# Altium footprint library RN41-I_RM.PcbLib: 1 footprints
Each footprint in its own frame and in the unit in brackets; x right, y up, seen from the top. Pads: shape width x height; smd on the part's side, far side on the other; paste and mask are expansions set on the pad; w line width, h text height; cw(c..) or ccw(c..) is an arc to the next point about the centre after c.
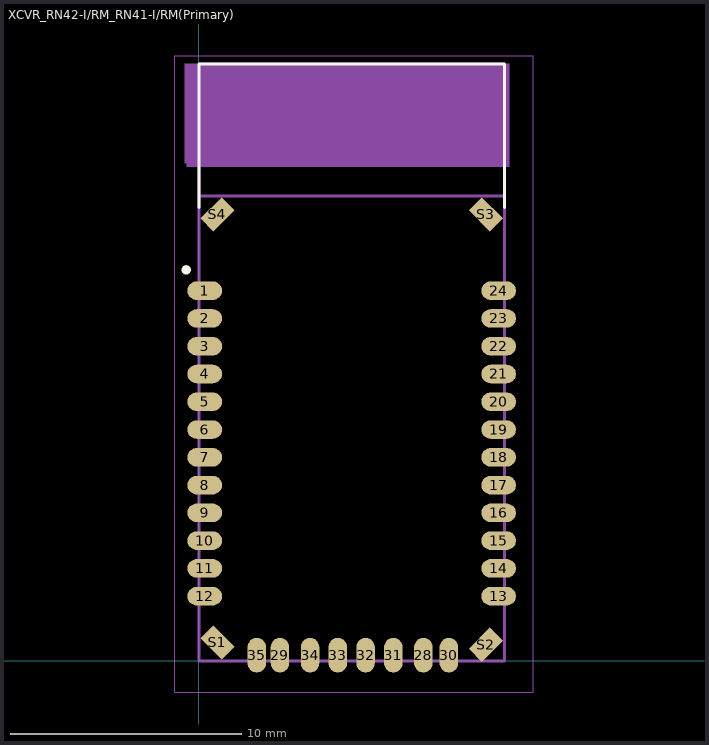
[diagram p0: the footprint, top view; thin cyan lines are the x and y axes]

## XCVR_RN42-I/RM_RN41-I/RM(Primary) [mm]
pads (36):
  oval 1.5x0.8 smd: 1(0.25,16) 2(0.25,14.8) 3(0.25,13.6) 4(0.25,12.4) 5(0.25,11.2) 6(0.25,10) 7(0.25,8.8) 8(0.25,7.6) 9(0.25,6.4) 10(0.25,5.2) 11(0.25,4) 12(0.25,2.8) 13(12.95,2.8) 14(12.95,4) 15(12.95,5.2) 16(12.95,6.4) 17(12.95,7.6) 18(12.95,8.8) 19(12.95,10) 20(12.95,11.2) 21(12.95,12.4) 22(12.95,13.6) 23(12.95,14.8) 24(12.95,16)
  oval 0.8x1.5 smd: 28(9.7,0.25) 29(3.5,0.25) 30(10.8,0.25) 31(8.4,0.25) 32(7.2,0.25) 33(6,0.25) 34(4.8,0.25) 35(2.5,0.25)
  rect 1.3x0.8 smd rot 135: S1(0.8,0.8) S3(12.4,19.3)
  rect 1.3x0.8 smd rot 45: S2(12.4,0.7) S4(0.8,19.3)
Top Overlay:
  circle w0.2: c-0.55,16.9 r0.1
  lines w0.127: 0,19.6 0,25.8 13.2,25.8 13.2,19.6
Mechanical 4:
  region: -0.52,25.8 13.4,25.8 13.4,21.361 -0.52,21.361
  region: -0.611,25.8 13.4,25.8 13.4,21.513 -0.611,21.513
  region: -0.52,25.8 13.4,25.8 13.4,21.361 -0.52,21.361
  region: -0.611,25.8 13.4,25.8 13.4,21.513 -0.611,21.513
  lines w0.127: 0,0 0,20.1 ; 0,0 13.2,0 ; 0,0 0,20.1 ; 0,0 13.2,0 ; 0,20.1 13.2,20.1 ; 0,20.1 0,25.8 ; 0,20.1 13.2,20.1 ; 0,20.1 0,25.8 ; 0,25.8 13.2,25.8 ; 0,25.8 13.2,25.8 ; 13.2,0 13.2,20.1 ; 13.2,0 13.2,20.1 ; 13.2,20.1 13.2,25.8 ; 13.2,20.1 13.2,25.8
Mechanical 16:
  lines w0.05: -1.05,-1.35 -1.05,26.15 14.45,26.15 14.45,-1.35 -1.05,-1.35
3D body "RN41-I_RM.STEP": height 2.41, standoff 0.01, extent -0.096,0.054 13.304,25.854